# Altium footprint library c-trimm.PCBLIB: 11 footprints
Each footprint in its own frame and in the unit in brackets; x right, y up, seen from the top. Pads: shape width x height; smd on the part's side, far side on the other; paste and mask are expansions set on the pad; w line width, h text height; cw(c..) or ccw(c..) is an arc to the next point about the centre after c.
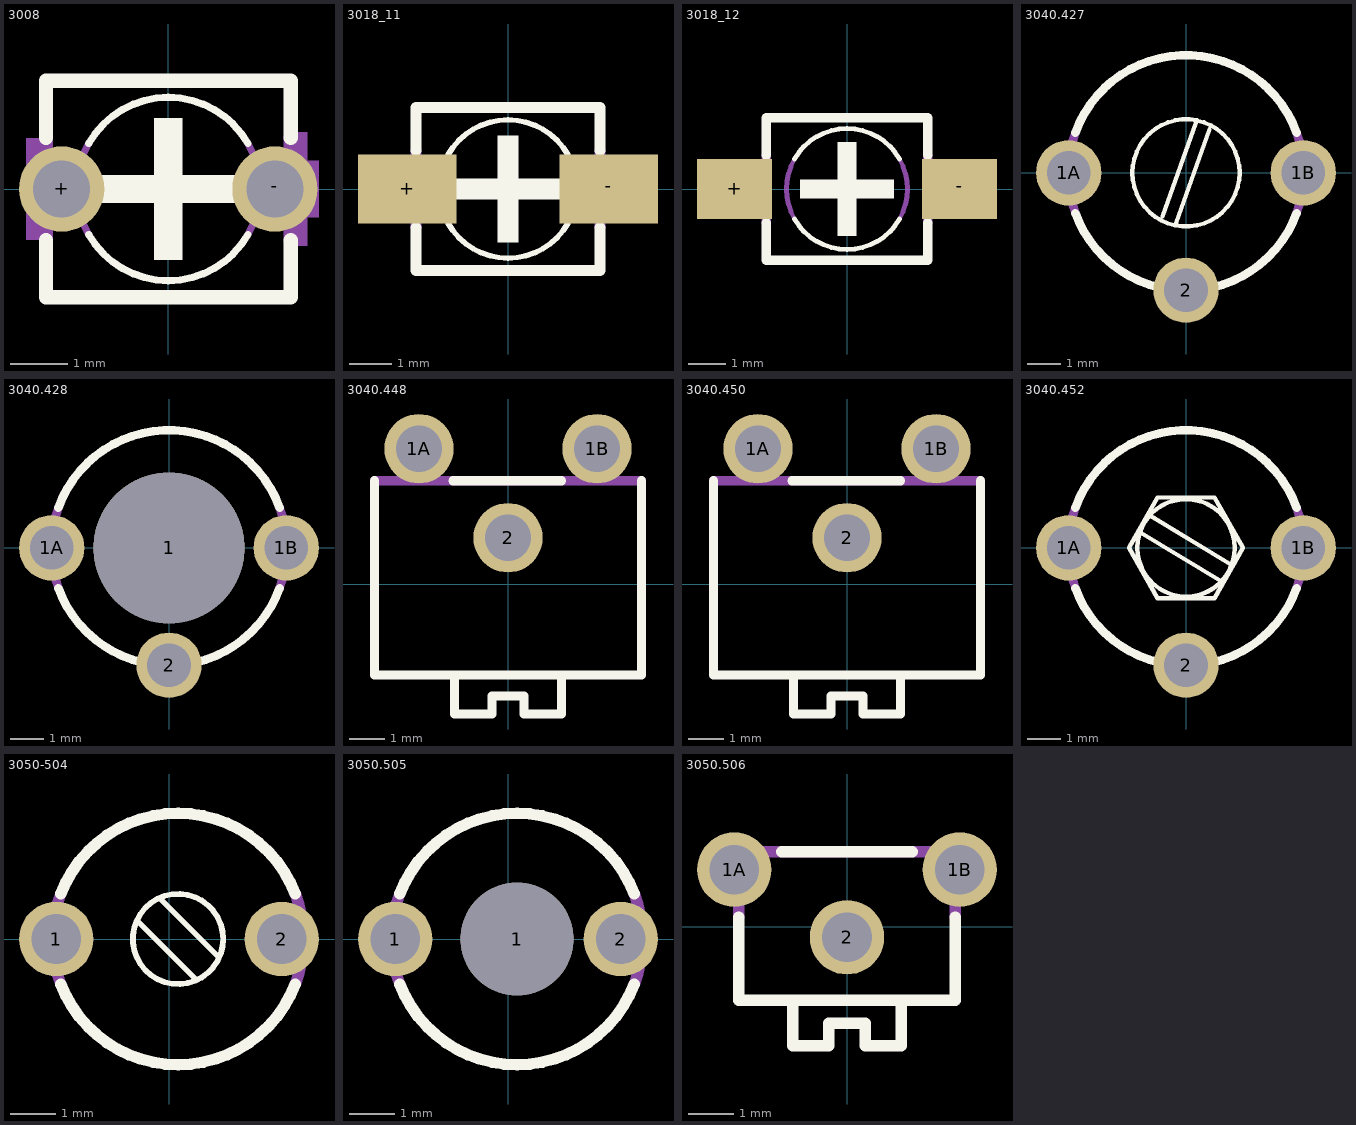
[diagram p0: the footprints below, top view; thin cyan lines are the x and y axes]

## 3008 [mm]
pads (2):
  round 1.5 hole 1: +(-1.875,0) -(1.875,0)
Top Overlay:
  rectangle: -0.25,-1.25 0.25,1.25
  rectangle: -1.25,-0.25 1.25,0.25
  lines w0.127: -1.4,-0.8 ccw(c0,0) 1.4,-0.8 ; -1.4,0.8 cw(c0,0) 1.4,0.8
  lines w0.254: -2.15,-0.9 -2.15,-1.9 2.15,-1.9 2.15,-0.9 ; -2.15,0.9 -2.15,1.9 2.15,1.9 2.15,0.9
Mechanical 16:
  rectangle: -2.5,-0.9 -2.25,0.9
  rectangle: 2.25,-1 2.45,1
  rectangle: 2.45,-0.5 2.65,0.5
  lines w0.127: -1.4,-0.8 cw(c0,0) -1.4,0.8 ; 1.4,-0.8 ccw(c0,0) 1.4,0.8
  lines w0.254: -2.15,-0.9 -2.15,0.9 ; 2.15,-0.9 2.15,0.9

## 3018_11 [mm]
pads (2):
  rect 2.3x1.6 smd: +(-2.35,0) -(2.35,0)
Top Overlay:
  rectangle: -0.25,-1.25 0.25,1.25
  rectangle: -1.25,-0.25 1.25,0.25
  lines w0.127: -1.4,-0.8 ccw(c0,0) 1.4,-0.8 ; -1.4,0.8 cw(c0,0) 1.4,0.8
  lines w0.254: -2.15,-0.9 -2.15,-1.9 2.15,-1.9 2.15,-0.9 ; -2.15,0.9 -2.15,1.9 2.15,1.9 2.15,0.9
Mechanical 16:
  rectangle: -2.6,-0.6 -2.25,0.6
  rectangle: 2.25,-0.6 2.6,0.6
  lines w0.127: -1.4,-0.8 cw(c0,0) -1.4,0.8 ; 1.4,-0.8 ccw(c0,0) 1.4,0.8
  lines w0.254: -2.15,-0.9 -2.15,0.9 ; 2.15,-0.9 2.15,0.9

## 3018_12 [mm]
pads (2):
  rect 2x1.6 smd: +(-3,0) -(3,0)
Top Overlay:
  rectangle: -0.25,-1.25 0.25,1.25
  rectangle: -1.25,-0.25 1.25,0.25
  lines w0.127: -1.4,-0.8 ccw(c0,0) 1.4,-0.8 ; -1.4,0.8 cw(c0,0) 1.4,0.8
  lines w0.254: -2.15,-0.9 -2.15,-1.9 2.15,-1.9 2.15,-0.9 ; -2.15,0.9 -2.15,1.9 2.15,1.9 2.15,0.9
Mechanical 16:
  rectangle: -3.5,-0.6 -2.25,0.6
  rectangle: 2.25,-0.6 3.5,0.6
  lines w0.127: -1.4,-0.8 cw(c0,0) -1.4,0.8 ; 1.4,-0.8 ccw(c0,0) 1.4,0.8
  lines w0.254: -2.15,-0.9 -2.15,0.9 ; 2.15,-0.9 2.15,0.9

## 3040.427 [mm]
pads (3):
  round 1.95 hole 1.3: 1A(-3.5,0) 1B(3.5,0) 2(0,-3.5)
Top Overlay:
  circle w0.127: c0,0 r1.6
  lines w0.127: -0.7,-1.3 0.3,1.5 ; -0.3,-1.5 0.7,1.3
  lines w0.254: -3.3,-1.2 ccw(c0,0) 3.3,-1.2 ; -3.3,1.2 cw(c0,0) 3.3,1.2
Mechanical 16:
  rectangle: -3.9,-0.6 -3.5,0.6
  rectangle: 3.5,-0.6 3.9,0.6
  rectangle: -0.6,-3.9 0.6,-3.5
  lines w0.254: -3.3,-1.2 cw(c0,0) -3.3,1.2 ; 3.3,-1.2 ccw(c0,0) 3.3,1.2

## 3040.428 [mm]
pads (4):
  round 4.5 hole 4.5: 1(0,0)
  round 1.95 hole 1.3: 1A(-3.5,0) 1B(3.5,0) 2(0,-3.5)
Top Overlay:
  circle w0.127: c0,0 r1.6
  lines w0.127: -0.7,-1.3 0.3,1.5 ; -0.3,-1.5 0.7,1.3
  lines w0.254: -3.3,-1.2 ccw(c0,0) 3.3,-1.2 ; -3.3,1.2 cw(c0,0) 3.3,1.2
Mechanical 16:
  rectangle: -3.9,-0.6 -3.5,0.6
  rectangle: 3.5,-0.6 3.9,0.6
  rectangle: -0.6,-3.9 0.6,-3.5
  lines w0.254: -3.3,-1.2 cw(c0,0) -3.3,1.2 ; 3.3,-1.2 ccw(c0,0) 3.3,1.2

## 3040.448 [mm]
pads (3):
  round 1.95 hole 1.3: 1A(-2.5,3.81) 1B(2.5,3.81) 2(0,1.31)
Top Overlay:
  lines w0.254: -3.75,2.91 -3.75,-2.54 3.75,-2.54 3.75,2.91 ; -1.55,2.91 1.5,2.91 ; -1.5,-2.64 -1.5,-3.64 -0.45,-3.64 -0.45,-3.14 0.45,-3.14 0.45,-3.64 1.5,-3.64 1.5,-2.64
Mechanical 16:
  rectangle: -2.8,3.01 -2.2,4.56
  rectangle: 2.2,3.01 2.8,4.56
  lines w0.254: -3.75,2.91 3.75,2.91

## 3040.450 [mm]
pads (3):
  round 1.95 hole 1.3: 1A(-2.5,3.81) 1B(2.5,3.81) 2(0,1.31)
Top Overlay:
  lines w0.254: -3.75,2.91 -3.75,-2.54 3.75,-2.54 3.75,2.91 ; -1.55,2.91 1.5,2.91 ; -1.5,-2.64 -1.5,-3.64 -0.45,-3.64 -0.45,-3.14 0.45,-3.14 0.45,-3.64 1.5,-3.64 1.5,-2.64
Mechanical 16:
  rectangle: -2.8,3.01 -2.2,4.56
  rectangle: 2.2,3.01 2.8,4.56
  lines w0.254: -3.75,2.91 3.75,2.91

## 3040.452 [mm]
pads (3):
  round 1.95 hole 1.3: 1A(-3.5,0) 1B(3.5,0) 2(0,-3.5)
Top Overlay:
  circle w0.01: c0,0 r1.5
  circle w0.127: c0,0 r1.451
  lines w0.127: -1.35,0.45 1.05,-1 ; -1.05,0.95 1.35,-0.5 ; -1.7,0 -0.85,1.5 0.85,1.5 1.7,0 0.85,-1.5 -0.85,-1.5 -1.7,0
  lines w0.254: -3.3,-1.2 ccw(c0,0) 3.3,-1.2 ; -3.3,1.2 cw(c0,0) 3.3,1.2
Mechanical 16:
  rectangle: -3.9,-0.6 -3.5,0.6
  rectangle: 3.5,-0.6 3.9,0.6
  rectangle: -0.6,-3.9 0.6,-3.5
  lines w0.254: -3.3,-1.2 cw(c0,0) -3.3,1.2 ; 3.3,-1.2 ccw(c0,0) 3.3,1.2

## 3050-504 [mm]
pads (2):
  round 1.65 hole 1.1: 1(-2.5,0) 2(2.5,0)
Top Overlay:
  circle w0.127: c0.2,0 r1
  lines w0.127: -0.7,0.4 0.6,-0.9 ; -0.2,0.9 1.1,-0.4
  lines w0.254: -2.4,-1 ccw(c0.2,0) 2.8,-1 ; -2.4,1 cw(c0.2,0) 2.8,1
Mechanical 16:
  lines w0.254: -2.4,-1 cw(c0.2,0) -2.4,1 ; 2.8,-1 ccw(c0.2,0) 2.8,1

## 3050.505 [mm]
pads (3):
  round 1.65 hole 1.1: 1(-2.5,0) 2(2.5,0)
  round 2.5 hole 2.5: 1(0.2,0)
Top Overlay:
  circle w0.127: c0.2,0 r1
  lines w0.127: -0.7,0.4 0.6,-0.9 ; -0.2,0.9 1.1,-0.4
  lines w0.254: -2.4,-1 ccw(c0.2,0) 2.8,-1 ; -2.4,1 cw(c0.2,0) 2.8,1
Mechanical 16:
  lines w0.254: -2.4,-1 cw(c0.2,0) -2.4,1 ; 2.8,-1 ccw(c0.2,0) 2.8,1

## 3050.506 [mm]
pads (3):
  round 1.65 hole 1.1: 1A(-2.5,1.27) 1B(2.5,1.27) 2(0,-0.23)
Top Overlay:
  lines w0.254: -2.4,0.22 -2.4,-1.63 -1.2,-1.63 ; -1.45,1.67 1.45,1.67 ; 2.4,0.22 2.4,-1.63 1.2,-1.63 ; -1.2,-1.63 -1.2,-2.63 -0.4,-2.63 -0.4,-2.13 0.4,-2.13 0.4,-2.63 1.2,-2.63 1.2,-1.63 ; -1.2,-1.63 1.2,-1.63
Mechanical 16:
  lines w0.254: -2.4,0.22 -2.4,1.67 2.4,1.67 2.4,0.22